# EAGLE library part RTC8563 (library m3space)
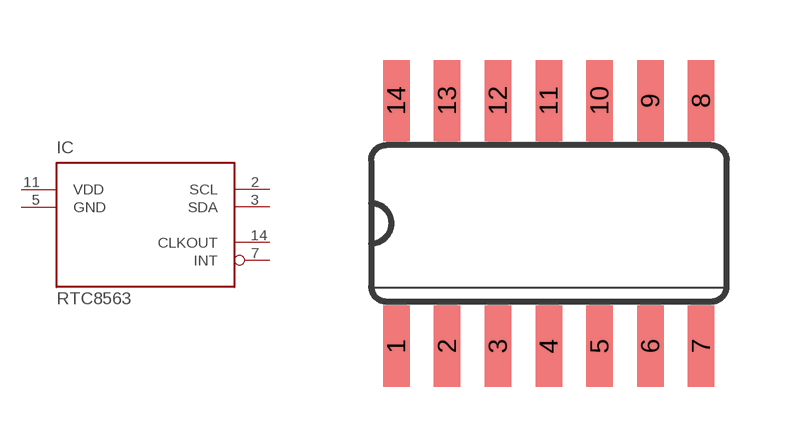
[diagram p1: symbol with the pads of SO14; footprint SO14]

Designator prefix IC

## RTC8563  [SO14]
2  SCL  in
3  SDA
5  GND  pwr
7  INT  out
11  VDD  pwr
14  CLKOUT  out

## Footprint SO14 (pad centres in mm)
Small Outline package 150 mil
smd 0.66 x 2.032: 1 -3.81,-3.073; 2 -2.54,-3.073; 3 -1.27,-3.073; 4 0,-3.073; 5 1.27,-3.073; 6 2.54,-3.073; 7 3.81,-3.073; 8 3.81,3.073; 9 2.54,3.073; 10 1.27,3.073; 11 0,3.073; 12 -1.27,3.073; 13 -2.54,3.073; 14 -3.81,3.073